# EAGLE library part PLATY_BAT_CON (library Platy_Bat_Con)
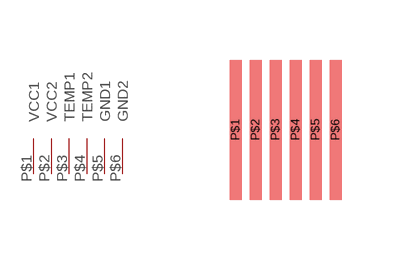
[diagram p0: symbol with the pads of FPC-6; footprint FPC-6]

Designator prefix -

## PLATY_BAT_CON  [FPC-6]
P$1  VCC1
P$2  VCC2
P$3  TEMP1
P$4  TEMP2
P$5  GND1
P$6  GND2

## Footprint FPC-6 (pad centres in mm)
smd 0.3 x 3.5: P$1 0,0; P$2 0.5,0; P$3 1,0; P$4 1.5,0; P$5 2,0; P$6 2.5,0